# EAGLE library part MTA09 (library con-amp)
AMP connector
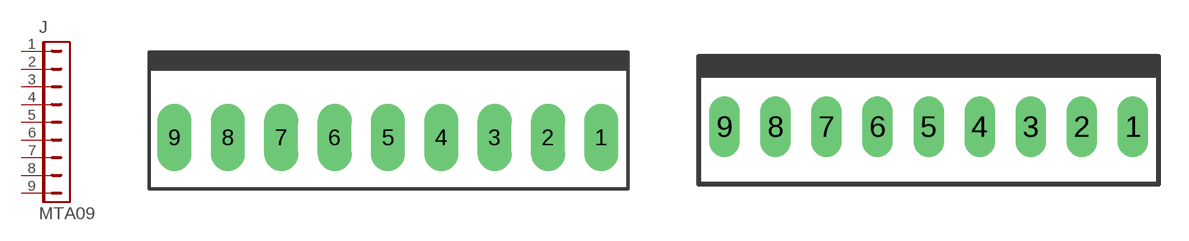
[diagram p114: symbol with the pads of MTA09-156; footprints MTA09-156, MTA09-100]

Designator prefix J

## MTA09-156  [MTA09-156]
1  1  pas
2  2  pas
3  3  pas
4  4  pas
5  5  pas
6  6  pas
7  7  pas
8  8  pas
9  9  pas

## MTA09-100  [MTA09-100]
Pads as for MTA09-156

## Footprint MTA09-156 (pad centres in mm)
MTA Connector - 0.156" pitch
drill 1.676 long: 1 15.85,0; 2 11.887,0; 3 7.925,0; 4 3.962,0; 5 0,0; 6 -3.962,0; 7 -7.925,0; 8 -11.887,0; 9 -15.85,0

## Footprint MTA09-100 (pad centres in mm)
MTA Connector - 0.1" pitch
drill 1.016 long: 1 10.16,0; 2 7.62,0; 3 5.08,0; 4 2.54,0; 5 0,0; 6 -2.54,0; 7 -5.08,0; 8 -7.62,0; 9 -10.16,0